# Altium footprint library APC.PcbLib: 68 footprints (part 3 of 5)
Each footprint in its own frame and in the unit in brackets; x right, y up, seen from the top. Pads: shape width x height; smd on the part's side, far side on the other; paste and mask are expansions set on the pad; w line width, h text height; cw(c..) or ccw(c..) is an arc to the next point about the centre after c.
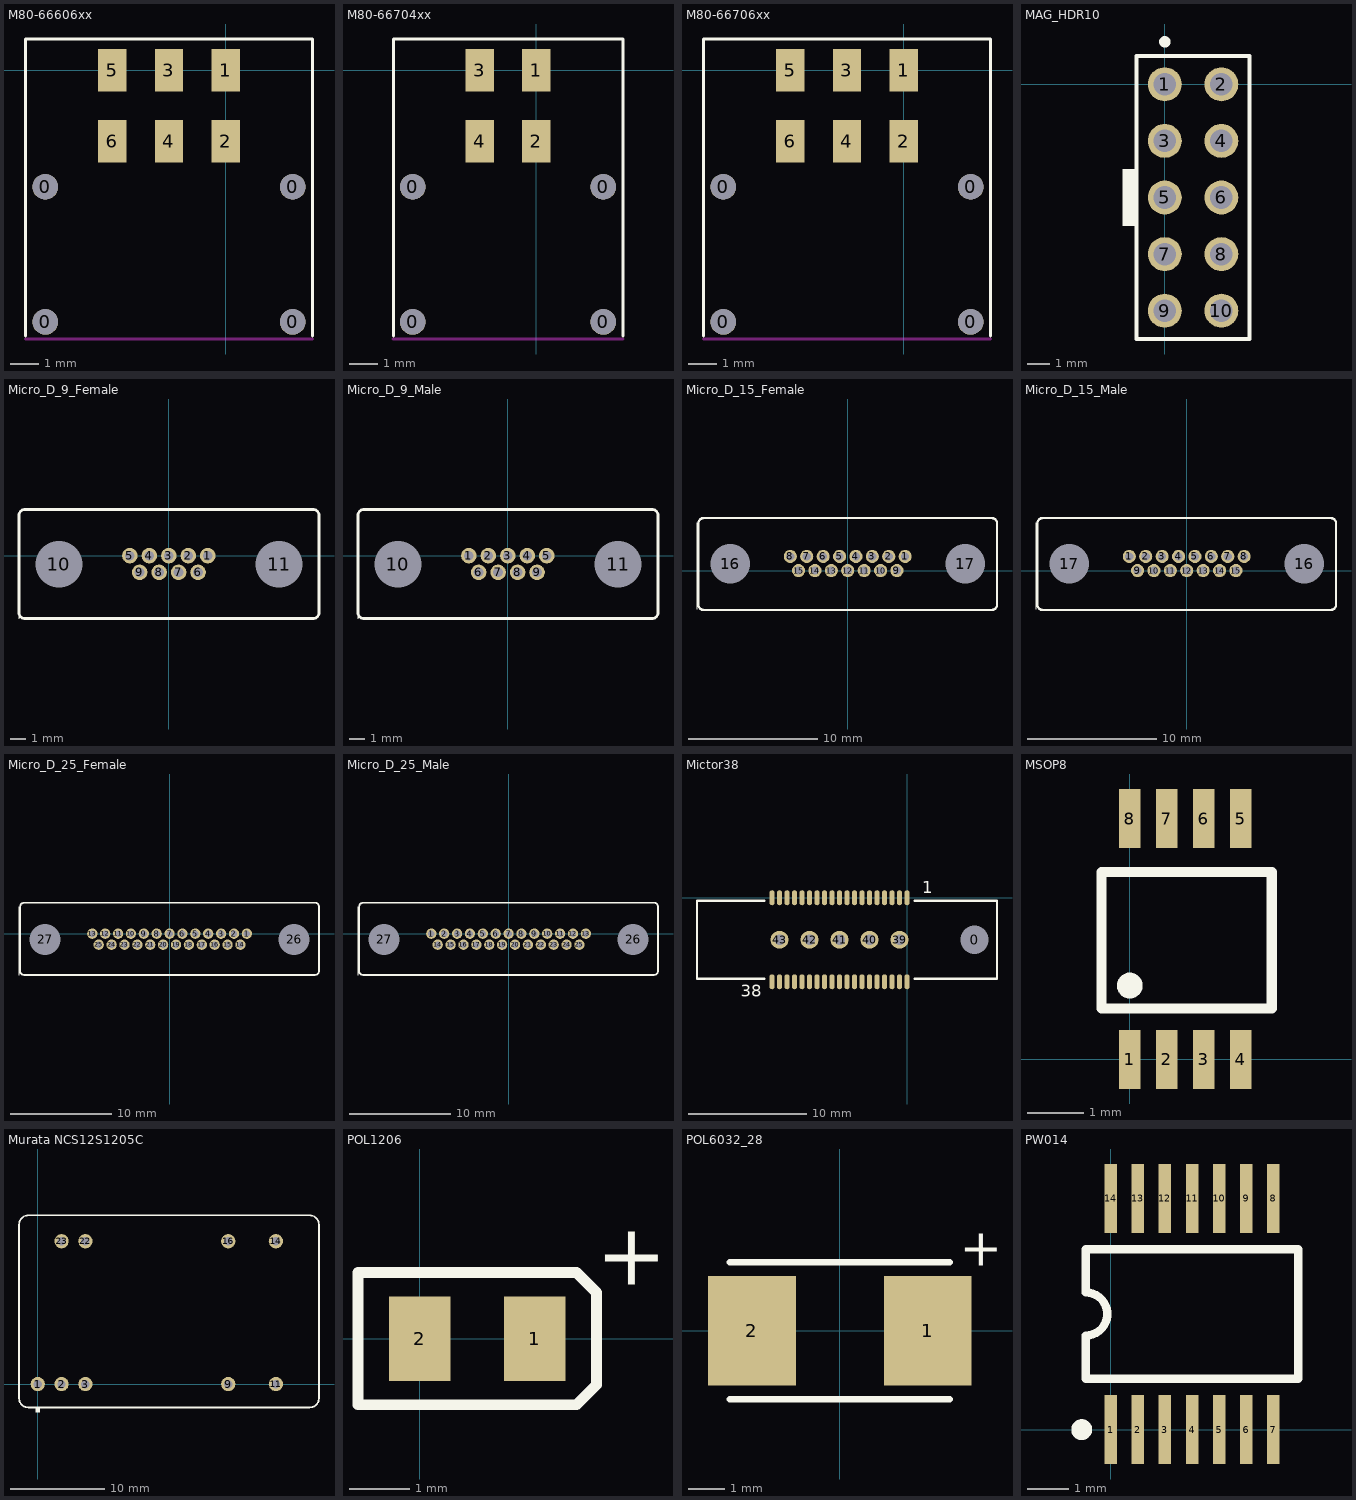
[diagram p2: the footprints below, top view; thin cyan lines are the x and y axes]

## M80-66606xx [mm] "Harwin, Horizontal SMT Male, Locking Latch, 6 pin"
height 5.6
pads (10):
  round 0.9 hole 0.9 unplated: 0(-6.35,-8.85) 0(-6.35,-4.1) 0(2.35,-8.85) 0(2.35,-4.1)
  rect 1x1.5 smd: 1(0,0) 2(0,-2.5) 3(-2,0) 4(-2,-2.5) 5(-4,0) 6(-4,-2.5)
Top Layer keep-out:
  lines w0.1: -7.05,-9.45 3.05,-9.45
Top Overlay:
  lines w0.1: -7.05,-9.35 -7.05,1.1 3.05,1.1 3.05,-9.35
3D body: height 5.82, standoff -0.03, extent -6.85,-12.7 3.05,0.25

## M80-66704xx [mm] "Harwin, Horizontal SMT Male, Friction Latch, 4 pin"
height 5.6
pads (8):
  round 0.9 hole 0.9 unplated: 0(-4.35,-8.85) 0(-4.35,-4.1) 0(2.35,-8.85) 0(2.35,-4.1)
  rect 1x1.5 smd: 1(0,0) 2(0,-2.5) 3(-2,0) 4(-2,-2.5)
Top Layer keep-out:
  lines w0.1: -5.05,-9.45 3.05,-9.45
Top Overlay:
  lines w0.1: -5.025,-9.35 -5.025,1.1 3.05,1.1 3.05,-9.35
3D body: height 5.82, standoff -0.03, extent -4.95,-12.6 2.95,0.35

## M80-66706xx [mm] "Harwin, Horizontal SMT Male, Friction Latch, 6 pin"
height 5.6
pads (10):
  round 0.9 hole 0.9 unplated: 0(-6.35,-8.85) 0(-6.35,-4.1) 0(2.35,-8.85) 0(2.35,-4.1)
  rect 1x1.5 smd: 1(0,0) 2(0,-2.5) 3(-2,0) 4(-2,-2.5) 5(-4,0) 6(-4,-2.5)
Top Layer keep-out:
  lines w0.1: -7.05,-9.45 3.05,-9.45
Top Overlay:
  lines w0.1: -7.05,-9.35 -7.05,1.1 3.05,1.1 3.05,-9.35
3D body: height 5.82, standoff -0.03, extent -6.85,-12.7 3.05,0.25

## MAG_HDR10 [mil] "10-pin RJ45 header"
height 300
pads (10):
  round 60 hole 40: 1(0,0) 2(100,0) 3(0,-100) 4(100,-100) 5(0,-200) 6(100,-200) 7(0,-300) 8(100,-300) 9(0,-400) 10(100,-400)
Top Overlay:
  circle w10: c0,75 r5
  rectangle: -75,-250 -50,-150
  lines w7: -50,-450 -50,50 150,50 150,-450 -50,-450
3D body: height 300, standoff 0, extent -50,-450 150,50

## Micro_D_9_Female [mil] "Micro D Female 9-pin connector"
height 327
pads (11):
  round 40 hole 25 mask+2: 1(100,0) 2(50,0) 3(0,0) 4(-50,0) 5(-100,0) 6(75,-43) 7(25,-43) 8(-25,-43) 9(-75,-43)
  round 75 hole 120 unplated: 10(-282,-22) 11(283,-22)
Top Overlay:
  lines w0: -384.5,-161.5 -384.5,103.5
  lines w7: -384.5,-146.5 ccw(c-369.5,-146.5) -369.5,-161.5 370.5,-161.5 ccw(c370.5,-146.5) 385.5,-146.5 385.5,103.5 ccw(c370.5,103.5) 370.5,118.5 -369.5,118.5 ccw(c-369.5,103.5) -384.5,103.5 -384.5,-146.5
3D body: height 327, standoff 0, extent -384.5,-161.5 385.5,118.5

## Micro_D_9_Male [mil] "Micro D Male 9-pin connector"
height 394
pads (11):
  round 40 hole 25 mask+2: 1(-100,0) 2(-50,0) 3(0,0) 4(50,0) 5(100,0) 6(-75,-43) 7(-25,-43) 8(25,-43) 9(75,-43)
  round 75 hole 120 unplated: 10(-282,-22) 11(283,-22)
Top Overlay:
  lines w0: -384.5,-161.5 -384.5,103.5
  lines w7: -384.5,-146.5 ccw(c-369.5,-146.5) -369.5,-161.5 370.5,-161.5 ccw(c370.5,-146.5) 385.5,-146.5 385.5,103.5 ccw(c370.5,103.5) 370.5,118.5 -369.5,118.5 ccw(c-369.5,103.5) -384.5,103.5 -384.5,-146.5
3D body: height 394, standoff 0, extent -384.5,-161.5 385.5,118.5

## Micro_D_15_Female [mil] "Micro D Female 15-pin connector"
height 327
pads (17):
  round 40 hole 25 mask+2: 1(175,43) 2(125,43) 3(75,43) 4(25,43) 5(-25,43) 6(-75,43) 7(-125,43) 8(-175,43) 9(150,0) 10(100,0) 11(50,0) 12(0,0) 13(-50,0) 14(-100,0) 15(-150,0)
  round 75 hole 120 unplated: 16(-358,21) 17(358,21)
Top Overlay:
  lines w0: -459.5,-118.5 -459.5,146.5
  lines w7: -455,-105 ccw(c-440,-105) -440,-120 440,-120 ccw(c440,-105) 455,-105 ; -455,-103.5 -455,146.5 ; -455,145 cw(c-440,145) -440,160 440,160 cw(c440,145) 455,145 ; 455,-103.5 455,146.5
3D body: height 327, standoff 0, extent -450,-115 450,155

## Micro_D_15_Male [mil] "Micro D Male 15-pin connector"
height 394
pads (17):
  round 40 hole 25 mask+2: 1(-175,43) 2(-125,43) 3(-75,43) 4(-25,43) 5(25,43) 6(75,43) 7(125,43) 8(175,43) 9(-150,0) 10(-100,0) 11(-50,0) 12(0,0) 13(50,0) 14(100,0) 15(150,0)
  round 75 hole 120 unplated: 16(358,21) 17(-358,21)
Top Overlay:
  lines w0: -459.5,-118.5 -459.5,146.5
  lines w7: -455,-105 ccw(c-440,-105) -440,-120 440,-120 ccw(c440,-105) 455,-105 ; -455,-103.5 -455,146.5 ; -455,145 cw(c-440,145) -440,160 440,160 cw(c440,145) 455,145 ; 455,-103.5 455,146.5
3D body: height 394, standoff 0, extent -450,-115 450,155

## Micro_D_25_Female [mil] "Micro D Female 25-pin connector"
height 327
pads (27):
  round 40 hole 25 mask+2: 1(300,0) 2(250,0) 3(200,0) 4(150,0) 5(100,0) 6(50,0) 7(0,0) 8(-50,0) 9(-100,0) 10(-150,0) 11(-200,0) 12(-250,0) 13(-300,0) 14(275,-43) 15(225,-43) 16(175,-43) 17(125,-43) 18(75,-43) 19(25,-43) 20(-25,-43) 21(-75,-43) 22(-125,-43) 23(-175,-43) 24(-225,-43) 25(-275,-43)
  round 75 hole 120 unplated: 26(483,-22) 27(-483,-22)
Top Overlay:
  lines w0: -584.5,-161.5 -584.5,103.5
  lines w7: 580,-146.5 580,103.5 ; 580,-145 cw(c565,-145) 565,-160 -565,-160 cw(c-565,-145) -580,-145 -580,105 cw(c-565,105) -565,120 565,120 cw(c565,105) 580,105
3D body: height 327, standoff 0, extent -575,-155 575,115

## Micro_D_25_Male [mil] "Micro D Male 25-pin connector"
height 394
pads (27):
  round 40 hole 25 mask+2: 1(-300,0) 2(-250,0) 3(-200,0) 4(-150,0) 5(-100,0) 6(-50,0) 7(0,0) 8(50,0) 9(100,0) 10(150,0) 11(200,0) 12(250,0) 13(300,0) 14(-275,-43) 15(-225,-43) 16(-175,-43) 17(-125,-43) 18(-75,-43) 19(-25,-43) 20(25,-43) 21(75,-43) 22(125,-43) 23(175,-43) 24(225,-43) 25(275,-43)
  round 75 hole 120 unplated: 26(483,-22) 27(-483,-22)
Top Overlay:
  lines w0: -584.5,-161.5 -584.5,103.5
  lines w7: 580,-146.5 580,103.5 ; 580,-145 cw(c565,-145) 565,-160 -565,-160 cw(c-565,-145) -580,-145 -580,105 cw(c-565,105) -565,120 565,120 cw(c565,105) 580,105
3D body: height 394, standoff 0, extent -575,-155 575,115

## Mictor38 [mil] "Mictor, 38-pin, PCB receptacle"
height 240
pads (44):
  round 60 hole 94: 0(225,-140)
  oval 17x50 smd: 1(0,0) 2(0,-280) 3(-25,0) 4(-25,-280) 5(-50,0) 6(-50,-280) 7(-75,0) 8(-75,-280) 9(-100,0) 10(-100,-280) 11(-125,0) 12(-125,-280) 13(-150,0) 14(-150,-280) 15(-175,0) 16(-175,-280) 17(-200,0) 18(-200,-280) 19(-225,0) 20(-225,-280) 21(-250,0) 22(-250,-280) 23(-275,0) 24(-275,-280) 25(-300,0) 26(-300,-280) 27(-325,0) 28(-325,-280) 29(-350,0) 30(-350,-280) 31(-375,0) 32(-375,-280) 33(-400,0) 34(-400,-280) 35(-425,0) 36(-425,-280) 37(-450,0) 38(-450,-280)
  round 60 hole 35: 39(-25,-140) 40(-125,-140) 41(-225,-140) 42(-325,-140) 43(-425,-140)
Top Overlay:
  lines w7: -475,-270 -700,-270 -700,-10 -475,-10 ; 25,-270 300,-270 300,-10 25,-10
  text "38" at -555,-330 h40
  text "1" at 50,15 h40
3D body: height 240, standoff 0, extent -700,-270 300,-10

## MSOP8 [mm] "Zetex Dual PNP"
height 1.143
pads (8):
  rect 0.38x1.04 smd mask+0.05: 1(0,0) 2(0.65,0) 4(1.95,0) 5(1.95,4.24) 6(1.3,4.24) 7(0.65,4.24) 8(0,4.24)
  rect 0.38x1.04 smd paste+0 mask+0.05: 3(1.3,0)
Top Overlay:
  circle w0.254: c0,1.3 r0.1
  lines w0.178: -0.5,0.9 2.5,0.9 2.5,3.3 -0.5,3.3 -0.5,0.9
3D body: height 1.14, standoff 0, extent -0.508,0.889 2.54,3.302

## Murata NCS12S1205C [mil] "Murata DC-DC Converter"
height 394
pads (9):
  round 60 hole 35: 1(0,0) 2(100,0) 3(200,0) 9(800,0) 11(1000,0) 14(1000,600) 16(800,600) 22(200,600) 23(100,600)
Top Overlay:
  rectangle: -10,-120 10,-100
  lines w7: -78.74,-59.06 ccw(c-39.37,-59.06) -39.37,-98.43 1141.73,-98.43 ccw(c1141.73,-59.06) 1181.1,-59.06 1181.1,669.29 ccw(c1141.73,669.29) 1141.73,708.66 -39.37,708.66 ccw(c-39.37,669.29) -78.74,669.29 -78.74,-59.06
3D body: height 394, standoff 0, extent -80,-100 1180,710

## POL1206 [mil] "Polarized Capacitor, 1206 Package"
height 70
pads (2):
  rect 40x55 smd: 1(75,0) 2(0,0)
Top Overlay:
  lines w7: -40,-43 102,-43 115,-30 115,30 102,43 -40,43 ; -40,-43 -40,43 ; -40,-43 -40,43
  text "+" at 115,35 h40
3D body: height 75, standoff 0, extent -15,-30 90,30

## POL6032_28 [mm] "Polarized Capacitor, EIA Size 6032-28"
height 2.5
pads (2):
  rect 2.4x3 smd: 1(2.4,0) 2(-2.4,0)
Top Overlay:
  lines w0.178: -3,-1.875 3,-1.875 ; -3,1.875 3,1.875
  text "+" at 3.275,1.775 h1.02
3D body: height 2.5, standoff 0, extent -3,-1.6 3,1.6

## PW014 [mm] "Shrink Small Outline; 14 Leads; Body Width 4.4 mm; Pitch 0.65 mm"
height 1.2
pads (14):
  rect 0.3x1.65 smd: 1(0,0) 2(0.65,0) 3(1.3,0) 4(1.95,0) 5(2.6,0) 6(3.25,0) 7(3.9,0) 8(3.9,5.55) 9(3.25,5.55) 10(2.6,5.55) 11(1.95,5.55) 12(1.3,5.55) 13(0.65,5.55) 14(0,5.55)
Top Overlay:
  circle w0.25: c-0.7,0 r0.125
  lines w0.2: -0.6,1.225 4.5,1.225 4.5,4.325 -0.6,4.325 -0.6,3.292 cw(c-0.6,2.775) -0.6,2.258 -0.6,1.225
3D body: height 1.2, standoff 0, extent -0.55,1.275 4.45,4.275